# Altium schematic symbol library TPS2814D.SchLib: 1 symbol
Pins are listed as number, name and electrical type; pins without a type are passive.

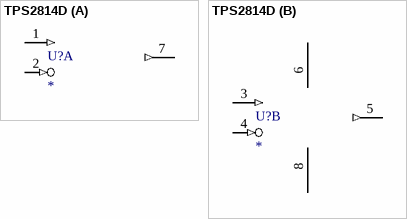
[diagram p0: symbol TPS2814D]

## TPS2814D
designator U?
part A pins: 1 (in), 2 (in), 7 (out)
part B pins: 3 (in), 4 (in), 5 (out), 6 VCC (power), 8 GND (power)